# Altium schematic symbol library OPA2673IRGVR.SchLib: 2 symbols
Pins are listed as number, name and electrical type; pins without a type are passive.

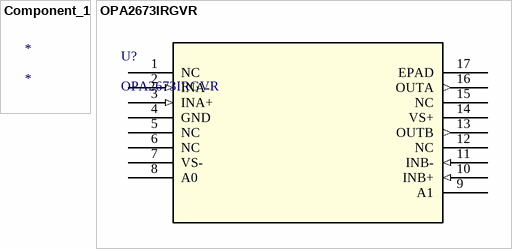
[diagram p0: symbols Component_1 to OPA2673IRGVR]

## Component_1
designator *

## OPA2673IRGVR
designator U?
No Description Available; Mfr_Name: Texas Instruments; Copyright: Copyright (C) 2024 Ultra Librarian. All rights reserved.; Manufacturer_Part_Number: OPA2673IRGVR; RefDes: RefDes; Type: DEV
footprint RGV16_2P16X2P16
pins: 1 NC, 2 INA- (in), 3 INA+ (in), 4 GND (power), 5 NC, 6 NC, 7 VS- (power), 8 A0, 9 A1, 10 INB+ (in), 11 INB- (in), 12 NC, 13 OUTB (out), 14 VS+ (power), 15 NC, 16 OUTA (out), 17 EPAD